# Altium footprint library HyTechDevices.PCBLIB: 298 footprints (part 15 of 19)
Each footprint in its own frame and in the unit in brackets; x right, y up, seen from the top. Pads: shape width x height; smd on the part's side, far side on the other; paste and mask are expansions set on the pad; w line width, h text height; cw(c..) or ccw(c..) is an arc to the next point about the centre after c.
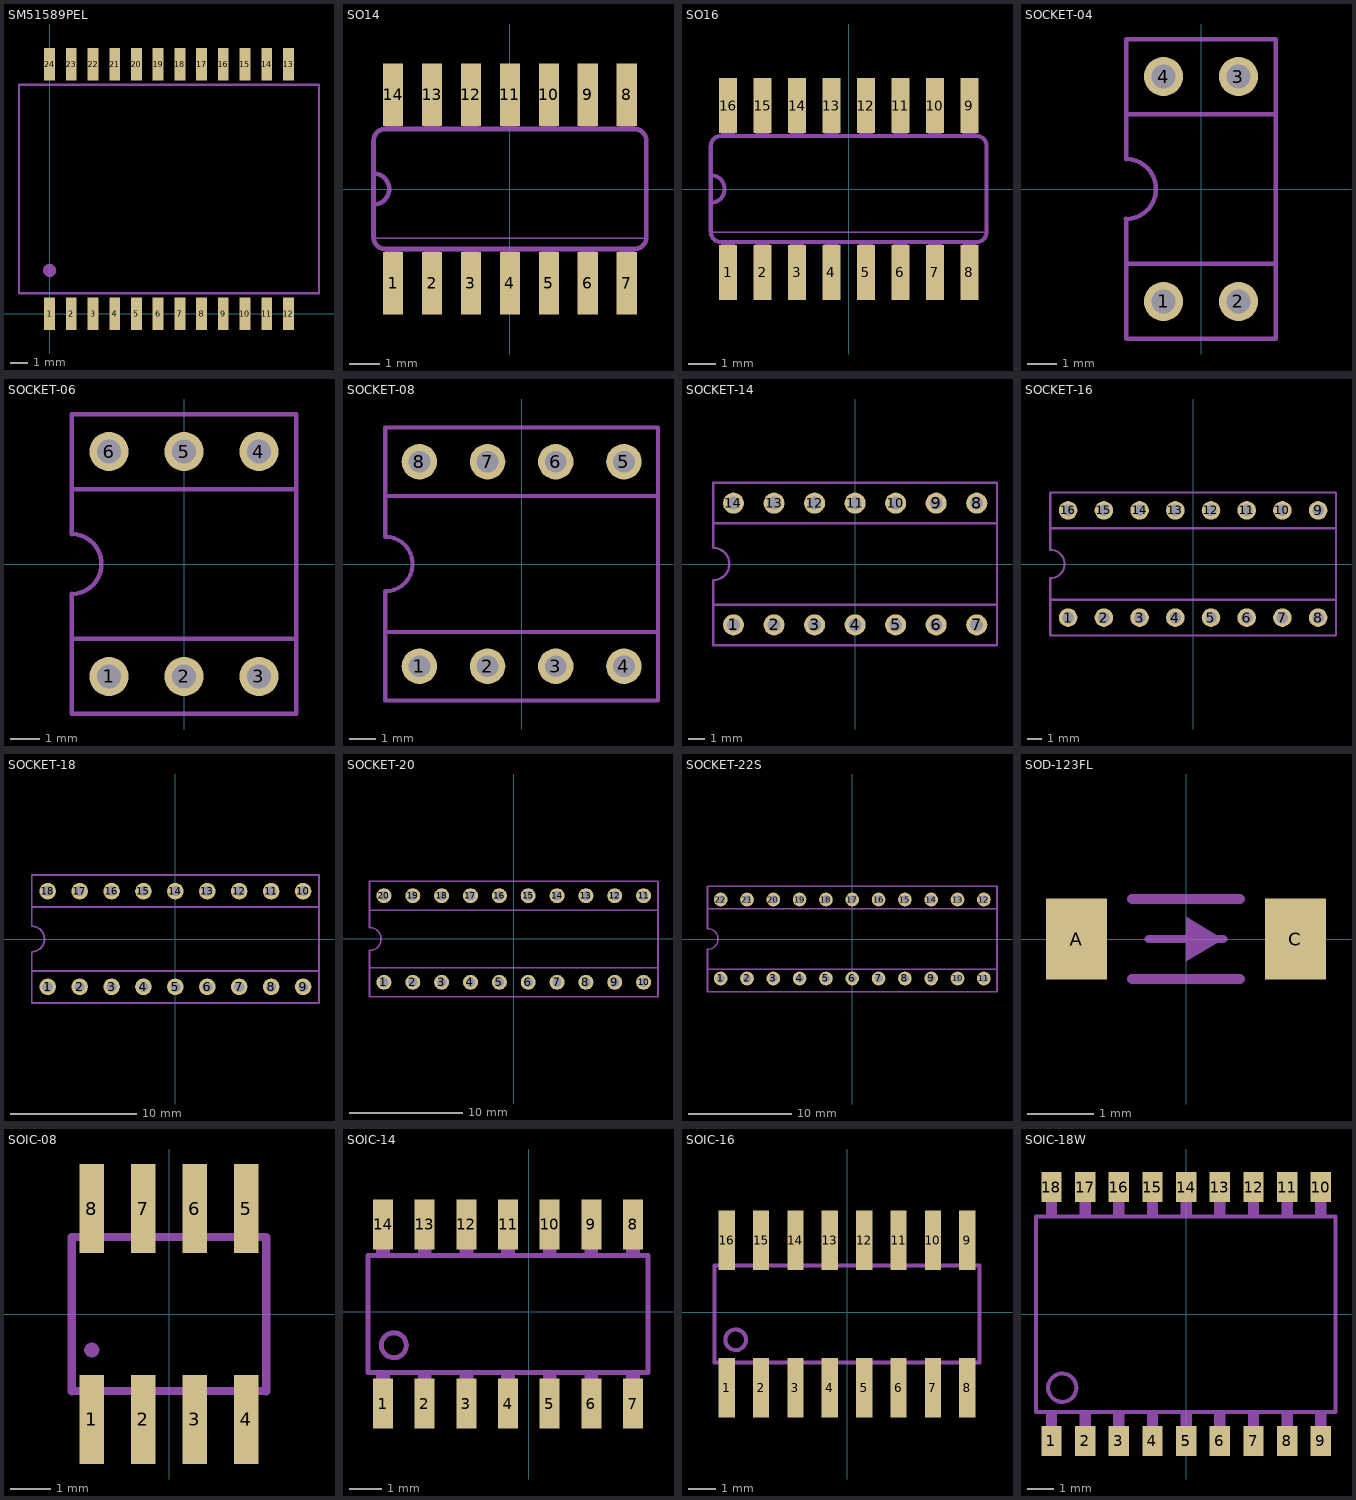
[diagram p14: the footprints below, top view; thin cyan lines are the x and y axes]

## SM51589PEL [mil]
pads (24):
  rect 25x75 smd: 1(0,0) 2(50,0) 3(100,0) 4(150,0) 5(200,0) 6(250,0) 7(300,0) 8(350,0) 9(400,0) 10(450,0) 11(500,0) 12(550,0) 13(550,575) 14(500,575) 15(450,575) 16(400,575) 17(350,575) 18(300,575) 19(250,575) 20(200,575) 21(150,575) 22(100,575) 23(50,575) 24(0,575)
Mechanical 7:
  circle w20: c0,100 r5
  lines w5: -70.5,47.5 -70.5,527.5 620.5,527.5 620.5,47.5 -70.5,47.5

## SO14 [mil]
pads (14):
  rect 26x80 smd: 1(-150,-121) 2(-100,-121) 3(-50,-121) 4(0,-121) 5(50,-121) 6(100,-121) 7(150,-121) 8(150,121) 9(100,121) 10(50,121) 11(0,121) 12(-50,121) 13(-100,121) 14(-150,121)
Mechanical 3:
  region: -10,77 -10,122 10,122 10,77
  region: -160,-122 -160,-77 -140,-77 -140,-122
  region: -110,-122 -110,-77 -90,-77 -90,-122
  region: -60,-121 -60,-76 -40,-76 -40,-121
  region: -10,-122 -10,-77 10,-77 10,-122
  region: -60,77 -60,122 -40,122 -40,77
  region: -110,77 -110,122 -90,122 -90,77
  region: -160,77 -160,122 -140,122 -140,77
  region: 40,77 40,122 60,122 60,77
  region: 90,77 90,122 110,122 110,77
  region: 140,77 140,122 160,122 160,77
  region: 40,-122 40,-77 60,-77 60,-122
  region: 90,-122 90,-77 110,-77 110,-122
  region: 140,-122 140,-77 160,-77 160,-122
Mechanical 7:
  lines w2: -175,-63 175,-63
  lines w6: -175,-20 -175,20 ; -175,-20 -175,-62 ccw(c-160,-62) -160,-77 160,-77 ccw(c160,-62) 175,-62 175,62 ccw(c160,62) 160,77 -160,77 ccw(c-160,62) -175,62 -175,20 ; -175,-20 ccw(c-175,0) -175,20

## SO16 [mil]
pads (16):
  rect 26x80 smd: 1(-175,-121) 2(-125,-121) 3(-75,-121) 4(-25,-121) 5(25,-121) 6(75,-121) 7(125,-121) 8(175,-121) 9(175,121) 10(125,121) 11(75,121) 12(25,121) 13(-25,121) 14(-75,121) 15(-125,121) 16(-175,121)
Mechanical 3:
  region: -35,77 -35,122 -15,122 -15,77
  region: -185,-122 -185,-77 -165,-77 -165,-122
  region: -135,-122 -135,-77 -115,-77 -115,-122
  region: -85,-121 -85,-76 -65,-76 -65,-121
  region: -35,-122 -35,-77 -15,-77 -15,-122
  region: -85,77 -85,122 -65,122 -65,77
  region: -135,77 -135,122 -115,122 -115,77
  region: -185,77 -185,122 -165,122 -165,77
  region: 15,-122 15,-77 35,-77 35,-122
  region: 65,-122 65,-77 85,-77 85,-122
  region: 115,-122 115,-77 135,-77 135,-122
  region: 165,-122 165,-77 185,-77 185,-122
  region: 15,77 15,122 35,122 35,77
  region: 65,77 65,122 85,122 85,77
  region: 115,77 115,122 135,122 135,77
  region: 165,77 165,122 185,122 185,77
Mechanical 7:
  lines w2: -200,-63 200,-63
  lines w6: -200,-20 -200,20 ; -200,-20 -200,-62 ccw(c-185,-62) -185,-77 185,-77 ccw(c185,-62) 200,-62 200,62 ccw(c185,62) 185,77 -185,77 ccw(c-185,62) -200,62 -200,20 ; -200,-20 ccw(c-200,0) -200,20

## SOCKET-04 [mil]
pads (4):
  round 52 hole 32: 1(-50,-150) 2(50,-150) 3(50,150) 4(-50,150)
Mechanical 7:
  lines w6: -100,-100 -100,-200 100,-200 100,-100 ; -100,-100 100,-100 ; -100,-100 -100,-40 ccw(c-100,0) -100,40 -100,100 ; -100,100 -100,200 100,200 100,100 ; -100,100 100,100 ; 100,-100 100,100

## SOCKET-06 [mil]
pads (6):
  round 52 hole 32: 1(-100,-150) 2(0,-150) 3(100,-150) 4(100,150) 5(0,150) 6(-100,150)
Mechanical 7:
  lines w6: -150,-100 -150,-200 150,-200 150,-100 ; -150,-100 150,-100 ; -150,-100 -150,-40 ccw(c-150,0) -150,40 -150,100 ; -150,100 -150,200 150,200 150,100 ; -150,100 150,100 ; 150,-100 150,100

## SOCKET-08 [mil]
pads (8):
  round 52 hole 32: 1(-150,-150) 2(-50,-150) 3(50,-150) 4(150,-150) 5(150,150) 6(50,150) 7(-50,150) 8(-150,150)
Mechanical 7:
  lines w6: -200,-100 -200,-200 200,-200 200,-100 ; -200,-100 200,-100 ; -200,-100 -200,-40 ccw(c-200,0) -200,40 -200,100 ; -200,100 -200,200 200,200 200,100 ; -200,100 200,100 ; 200,-100 200,100

## SOCKET-14 [mil]
pads (14):
  round 52 hole 32: 1(-300,-150) 2(-200,-150) 3(-100,-150) 4(0,-150) 5(100,-150) 6(200,-150) 7(300,-150) 8(300,150) 9(200,150) 10(100,150) 11(0,150) 12(-100,150) 13(-200,150) 14(-300,150)
Mechanical 7:
  lines w6: -350,-100 -350,-200 350,-200 350,-100 ; -350,-100 350,-100 ; -350,-100 -350,-40 ccw(c-350,0) -350,40 -350,100 ; -350,100 -350,200 350,200 350,100 ; -350,100 350,100 ; 350,-100 350,100

## SOCKET-16 [mil]
pads (16):
  round 52 hole 32: 1(-350,-150) 2(-250,-150) 3(-150,-150) 4(-50,-150) 5(50,-150) 6(150,-150) 7(250,-150) 8(350,-150) 9(350,150) 10(250,150) 11(150,150) 12(50,150) 13(-50,150) 14(-150,150) 15(-250,150) 16(-350,150)
Mechanical 7:
  lines w6: -400,-100 -400,-200 400,-200 400,-100 ; -400,-100 400,-100 ; -400,-100 -400,-40 ccw(c-400,0) -400,40 -400,100 ; -400,100 -400,200 400,200 400,100 ; -400,100 400,100 ; 400,-100 400,100

## SOCKET-18 [mil]
pads (18):
  round 52 hole 32: 1(-400,-150) 2(-300,-150) 3(-200,-150) 4(-100,-150) 5(0,-150) 6(100,-150) 7(200,-150) 8(300,-150) 9(400,-150) 10(400,150) 11(300,150) 12(200,150) 13(100,150) 14(0,150) 15(-100,150) 16(-200,150) 17(-300,150) 18(-400,150)
Mechanical 7:
  lines w6: -450,-100 -450,-200 450,-200 450,-100 ; -450,-100 450,-100 ; -450,-100 -450,-40 ccw(c-450,0) -450,40 -450,100 ; -450,100 -450,200 450,200 450,100 ; -450,100 450,100 ; 450,-100 450,100

## SOCKET-20 [mil]
pads (20):
  round 52 hole 32: 1(-450,-150) 2(-350,-150) 3(-250,-150) 4(-150,-150) 5(-50,-150) 6(50,-150) 7(150,-150) 8(250,-150) 9(350,-150) 10(450,-150) 11(450,150) 12(350,150) 13(250,150) 14(150,150) 15(50,150) 16(-50,150) 17(-150,150) 18(-250,150) 19(-350,150) 20(-450,150)
Mechanical 7:
  lines w6: -500,-100 -500,-200 500,-200 500,-100 ; -500,-100 500,-100 ; -500,-100 -500,-40 ccw(c-500,0) -500,40 -500,100 ; -500,100 -500,200 500,200 500,100 ; -500,100 500,100 ; 500,-100 500,100

## SOCKET-22S [mil]
pads (22):
  round 52 hole 32: 1(-500,-150) 2(-400,-150) 3(-300,-150) 4(-200,-150) 5(-100,-150) 6(0,-150) 7(100,-150) 8(200,-150) 9(300,-150) 10(400,-150) 11(500,-150) 12(500,150) 13(400,150) 14(300,150) 15(200,150) 16(100,150) 17(0,150) 18(-100,150) 19(-200,150) 20(-300,150) 21(-400,150) 22(-500,150)
Mechanical 7:
  lines w6: -550,-100 -550,-115 550,-115 550,-100 ; -550,-100 -550,-40 ccw(c-550,0) -550,40 -550,100 ; -550,-100 -550,-200 550,-200 550,-100 ; -550,100 -550,115 550,115 550,100 ; -550,100 -550,200 550,200 550,100 ; 550,-100 550,100

## SOD-123FL [mil]
pads (2):
  rect 36x48 smd: A(-64.5,0) C(64.5,0)
Mechanical 7:
  region: 0,13 0,-13 22,0
  lines w5: -22,0 22,0
  lines w6: -31.81,-23.62 31.81,-23.62 ; -31.81,23.62 31.81,23.62

## SOIC-08 [mil]
pads (8):
  rect 23.62x86.61 smd: 1(-75,-102.36) 2(-25,-102.36) 3(25,-102.36) 4(75,-102.36) 5(75,102.36) 6(25,102.36) 7(-25,102.36) 8(-75,102.36)
Mechanical 3:
  region: -84.65,-122.05 -84.65,-78.74 -65.35,-78.74 -65.35,-122.05
  region: -34.65,-122.05 -34.65,-78.74 -15.35,-78.74 -15.35,-122.05
  region: 15.35,-122.05 15.35,-78.74 34.65,-78.74 34.65,-122.05
  region: 65.35,-122.05 65.35,-78.74 84.65,-78.74 84.65,-122.05
  region: 65.35,78.74 65.35,122.05 84.65,122.05 84.65,78.74
  region: 15.35,78.74 15.35,122.05 34.65,122.05 34.65,78.74
  region: -34.65,78.74 -34.65,122.05 -15.35,122.05 -15.35,78.74
  region: -84.65,78.74 -84.65,122.05 -65.35,122.05 -65.35,78.74
Mechanical 7:
  region: -70,-40 -69.01,-39.01 -67.93,-36.41 -67.93,-33.59 -69.01,-30.99 -70,-30 -70.99,-29.01 -73.59,-27.93 -76.41,-27.93 -79.01,-29.01 -80,-30 -80.99,-30.99 -82.07,-33.59 -82.07,-36.41 -80.99,-39.01 -80,-40 -79.01,-40.99 -76.41,-42.07 -73.59,-42.07 -70.99,-40.99 -70,-40
  lines w8: -94.49,-75.12 -94.49,74.8 94.49,74.8 94.49,-75.12 ; -94.49,-74.8 94.49,-74.8

## SOIC-14 [mil]
pads (14):
  rect 24x60 smd: 1(-175,-110) 2(-125,-110) 3(-75,-110) 4(-25,-110) 5(25,-110) 6(75,-110) 7(125,-110) 8(125,105) 9(75,105) 10(25,105) 11(-25,105) 12(-75,105) 13(-125,105) 14(-175,105)
Mechanical 3:
  region: 117,69 117,109 133,109 133,69
  region: 67,69 67,109 83,109 83,69
  region: 17,69 17,109 33,109 33,69
  region: -33,69 -33,109 -17,109 -17,69
  region: -83,69 -83,109 -67,109 -67,69
  region: -133,69 -133,109 -117,109 -117,69
  region: -183,69 -183,109 -167,109 -167,69
  region: -183,-114 -183,-74 -167,-74 -167,-114
  region: -133,-114 -133,-74 -117,-74 -117,-114
  region: -83,-114 -83,-74 -67,-74 -67,-114
  region: -33,-114 -33,-74 -17,-74 -17,-114
  region: 17,-114 17,-74 33,-74 33,-114
  region: 67,-114 67,-74 83,-74 83,-114
  region: 117,-114 117,-74 133,-74 133,-114
Mechanical 7:
  circle w6: c-162,-40 r15
  lines w6: -193,-73 143,-73 143,68 -193,68 -193,-73
  text "14" at -145,-5 h62

## SOIC-16 [mil]
pads (16):
  rect 23.62x86.61 smd: 1(-175,-110) 2(-125,-110) 3(-75,-110) 4(-25,-110) 5(25,-110) 6(75,-110) 7(125,-110) 8(175,-110) 9(175,105) 10(125,105) 11(75,105) 12(25,105) 13(-25,105) 14(-75,105) 15(-125,105) 16(-175,105)
Mechanical 3:
  region: 167,69 167,109 183,109 183,69
  region: 117,69 117,109 133,109 133,69
  region: 67,69 67,109 83,109 83,69
  region: 17,69 17,109 33,109 33,69
  region: -33,69 -33,109 -17,109 -17,69
  region: -83,69 -83,109 -67,109 -67,69
  region: -133,69 -133,109 -117,109 -117,69
  region: -183,69 -183,109 -167,109 -167,69
  region: -183,-114 -183,-74 -167,-74 -167,-114
  region: -133,-114 -133,-74 -117,-74 -117,-114
  region: -83,-114 -83,-74 -67,-74 -67,-114
  region: -33,-114 -33,-74 -17,-74 -17,-114
  region: 17,-114 17,-74 33,-74 33,-114
  region: 67,-114 67,-74 83,-74 83,-114
  region: 117,-114 117,-74 133,-74 133,-114
  region: 167,-114 167,-74 183,-74 183,-114
Mechanical 7:
  circle w6: c-162,-40 r15
  lines w6: -193,-73 193,-73 193,68 -193,68 -193,-73
  text "16" at -145,-5 h62

## SOIC-18W [mil]
pads (18):
  rect 30x45 smd: 1(-200,-188.5) 2(-150,-188.5) 3(-100,-188.5) 4(-50,-188.5) 5(0,-188.5) 6(50,-188.5) 7(100,-188.5) 8(150,-188.5) 9(200,-188.5) 10(200,188.5) 11(150,188.5) 12(100,188.5) 13(50,188.5) 14(0,188.5) 15(-50,188.5) 16(-100,188.5) 17(-150,188.5) 18(-200,188.5)
Mechanical 3:
  region: 192,146.5 192,199.5 208,199.5 208,146.5
  region: 142,146.5 142,199.5 158,199.5 158,146.5
  region: 92,146.5 92,199.5 108,199.5 108,146.5
  region: 42,146.5 42,199.5 58,199.5 58,146.5
  region: -8,146.5 -8,199.5 8,199.5 8,146.5
  region: -58,146.5 -58,199.5 -42,199.5 -42,146.5
  region: -108,146.5 -108,199.5 -92,199.5 -92,146.5
  region: -158,146.5 -158,199.5 -142,199.5 -142,146.5
  region: -208,146.5 -208,199.5 -192,199.5 -192,146.5
  region: -208,-200.5 -208,-147.5 -192,-147.5 -192,-200.5
  region: -158,-200.5 -158,-147.5 -142,-147.5 -142,-200.5
  region: -108,-200.5 -108,-147.5 -92,-147.5 -92,-200.5
  region: -58,-200.5 -58,-147.5 -42,-147.5 -42,-200.5
  region: -8,-200.5 -8,-147.5 8,-147.5 8,-200.5
  region: 42,-200.5 42,-147.5 58,-147.5 58,-200.5
  region: 92,-200.5 92,-147.5 108,-147.5 108,-200.5
  region: 142,-200.5 142,-147.5 158,-147.5 158,-200.5
  region: 192,-200.5 192,-147.5 208,-147.5 208,-200.5
Mechanical 7:
  circle w6: c-184,-109.5 r21
  lines w6: -223,-145.5 222,-145.5 222,144.5 -223,144.5 -223,-145.5